# Altium footprint library Connector_PinHeader_1.00mm.PcbLib: 278 footprints (part 8 of 18)
Each footprint in its own frame and in the unit in brackets; x right, y up, seen from the top. Pads: shape width x height; smd on the part's side, far side on the other; paste and mask are expansions set on the pad; w line width, h text height; cw(c..) or ccw(c..) is an arc to the next point about the centre after c.
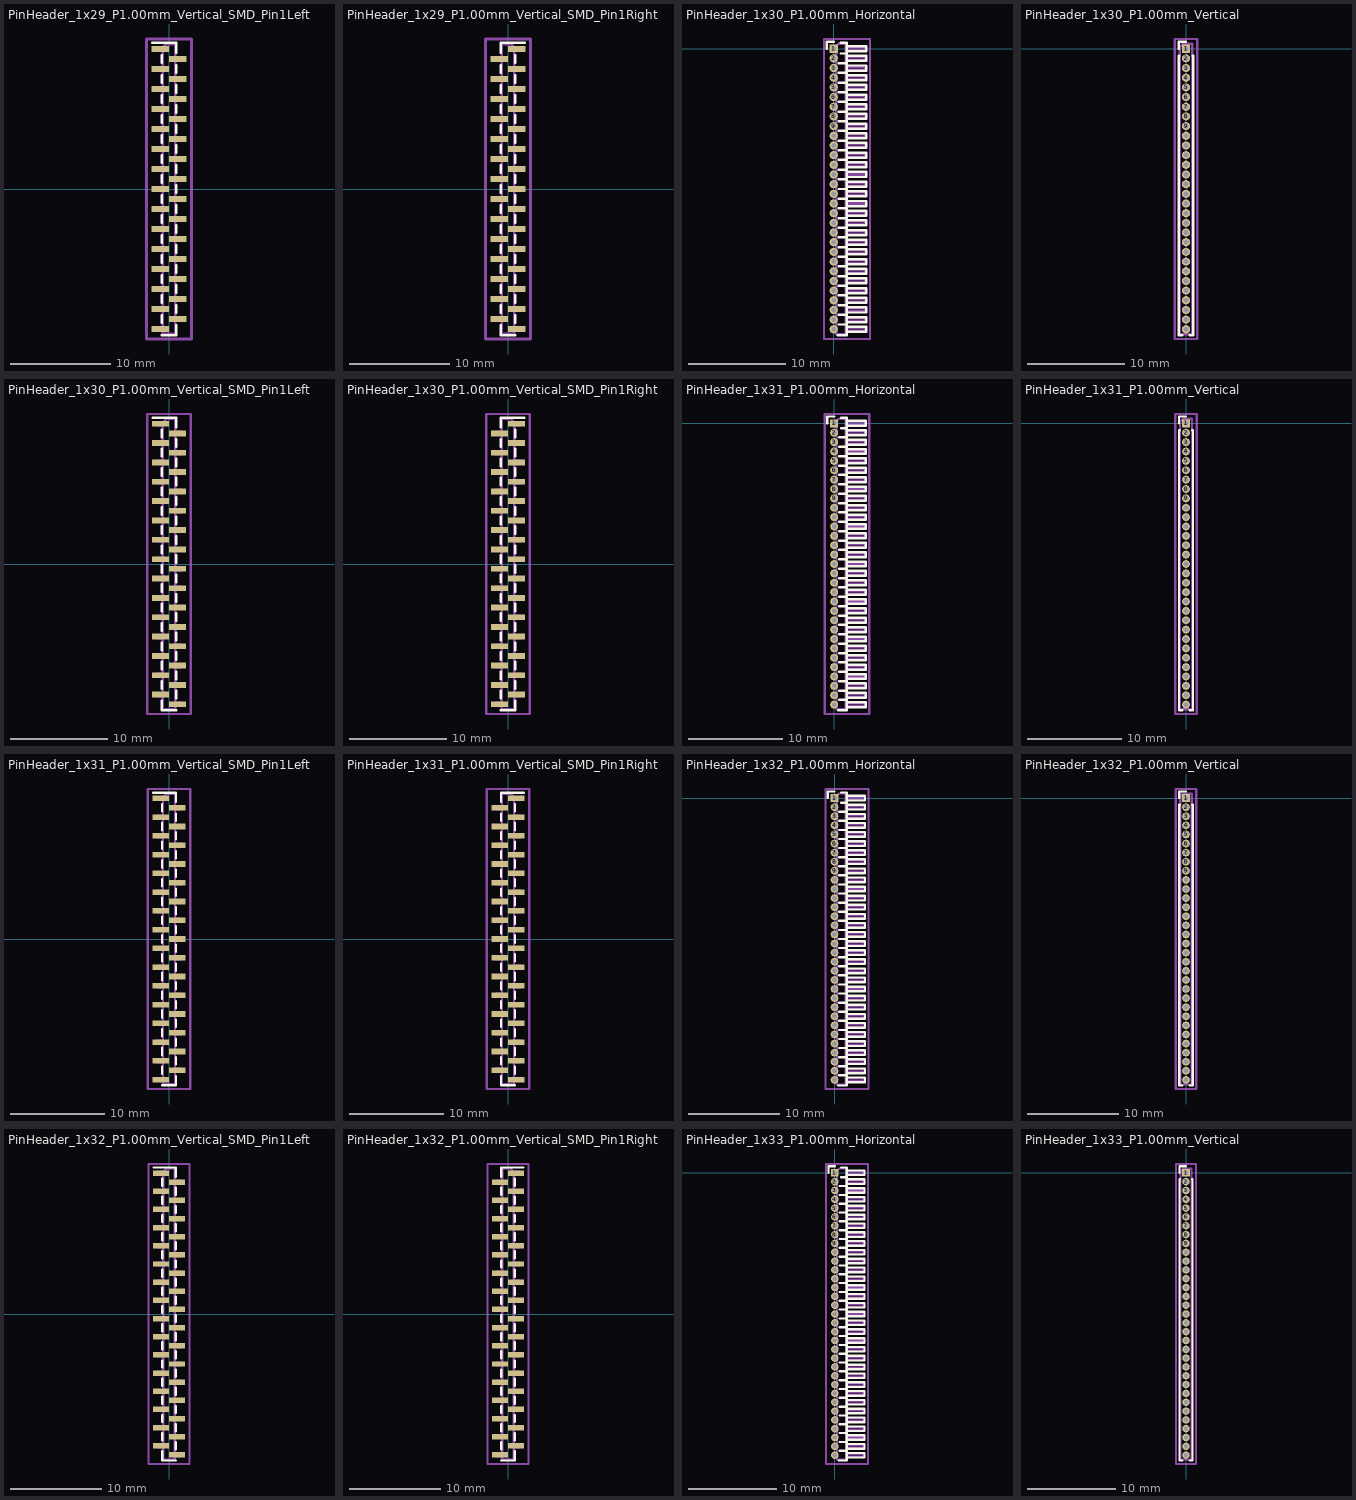
[diagram p7: the footprints below, top view; thin cyan lines are the x and y axes]

## PinHeader_1x29_P1.00mm_Vertical_SMD_Pin1Left [mm]
pads (29):
  rect 1.75x0.6 smd: 1(-0.875,14) 2(0.875,13) 3(-0.875,12) 4(0.875,11) 5(-0.875,10) 6(0.875,9) 7(-0.875,8) 8(0.875,7) 9(-0.875,6) 10(0.875,5) 11(-0.875,4) 12(0.875,3) 13(-0.875,2) 14(0.875,1) 15(-0.875,0) 16(0.875,-1) 17(-0.875,-2) 18(0.875,-3) 19(-0.875,-4) 20(0.875,-5) 21(-0.875,-6) 22(0.875,-7) 23(-0.875,-8) 24(0.875,-9) 25(-0.875,-10) 26(0.875,-11) 27(-0.875,-12) 28(0.875,-13) 29(-0.875,-14)
F.SilkS:
  lines w0.254: -1.69,14.61 -0.745,14.61 0.745,14.61 0.745,13.61 ; -0.745,-14.61 0.745,-14.61 0.745,-13.61 ; -0.745,-13.39 -0.745,-12.61 ; -0.745,-11.39 -0.745,-10.61 ; -0.745,-9.39 -0.745,-8.61 ; -0.745,-7.39 -0.745,-6.61 ; -0.745,-5.39 -0.745,-4.61 ; -0.745,-3.39 -0.745,-2.61 ; -0.745,-1.39 -0.745,-0.61 ; -0.745,0.61 -0.745,1.39 ; -0.745,2.61 -0.745,3.39 ; -0.745,4.61 -0.745,5.39 ; -0.745,6.61 -0.745,7.39 ; -0.745,8.61 -0.745,9.39 ; -0.745,10.61 -0.745,11.39 ; -0.745,12.61 -0.745,13.39 ; 0.745,-12.39 0.745,-11.61 ; 0.745,-10.39 0.745,-9.61 ; 0.745,-8.39 0.745,-7.61 ; 0.745,-6.39 0.745,-5.61 ; 0.745,-4.39 0.745,-3.61 ; 0.745,-2.39 0.745,-1.61 ; 0.745,-0.39 0.745,0.39 ; 0.745,1.61 0.745,2.39 ; 0.745,3.61 0.745,4.39 ; 0.745,5.61 0.745,6.39 ; 0.745,7.61 0.745,8.39 ; 0.745,9.61 0.745,10.39 ; 0.745,11.61 0.745,12.39
Top Assembly:
  lines w0.254: -0.635,-14.15 -1.25,-14.15 -1.25,-13.85 -0.635,-13.85 ; -0.635,-12.15 -1.25,-12.15 -1.25,-11.85 -0.635,-11.85 ; -0.635,-10.15 -1.25,-10.15 -1.25,-9.85 -0.635,-9.85 ; -0.635,-8.15 -1.25,-8.15 -1.25,-7.85 -0.635,-7.85 ; -0.635,-6.15 -1.25,-6.15 -1.25,-5.85 -0.635,-5.85 ; -0.635,-4.15 -1.25,-4.15 -1.25,-3.85 -0.635,-3.85 ; -0.635,-2.15 -1.25,-2.15 -1.25,-1.85 -0.635,-1.85 ; -0.635,-0.15 -1.25,-0.15 -1.25,0.15 -0.635,0.15 ; -0.635,1.85 -1.25,1.85 -1.25,2.15 -0.635,2.15 ; -0.635,3.85 -1.25,3.85 -1.25,4.15 -0.635,4.15 ; -0.635,5.85 -1.25,5.85 -1.25,6.15 -0.635,6.15 ; -0.635,7.85 -1.25,7.85 -1.25,8.15 -0.635,8.15 ; -0.635,9.85 -1.25,9.85 -1.25,10.15 -0.635,10.15 ; -0.635,11.85 -1.25,11.85 -1.25,12.15 -0.635,12.15 ; -0.635,13.85 -1.25,13.85 -1.25,14.15 -0.635,14.15 ; 0.635,-13.15 1.25,-13.15 1.25,-12.85 0.635,-12.85 ; 0.635,-11.15 1.25,-11.15 1.25,-10.85 0.635,-10.85 ; 0.635,-9.15 1.25,-9.15 1.25,-8.85 0.635,-8.85 ; 0.635,-7.15 1.25,-7.15 1.25,-6.85 0.635,-6.85 ; 0.635,-5.15 1.25,-5.15 1.25,-4.85 0.635,-4.85 ; 0.635,-3.15 1.25,-3.15 1.25,-2.85 0.635,-2.85 ; 0.635,-1.15 1.25,-1.15 1.25,-0.85 0.635,-0.85 ; 0.635,0.85 1.25,0.85 1.25,1.15 0.635,1.15 ; 0.635,2.85 1.25,2.85 1.25,3.15 0.635,3.15 ; 0.635,4.85 1.25,4.85 1.25,5.15 0.635,5.15 ; 0.635,6.85 1.25,6.85 1.25,7.15 0.635,7.15 ; 0.635,8.85 1.25,8.85 1.25,9.15 0.635,9.15 ; 0.635,10.85 1.25,10.85 1.25,11.15 0.635,11.15 ; 0.635,12.85 1.25,12.85 1.25,13.15 0.635,13.15 ; -0.635,14.15 -0.635,-14.5 0.635,-14.5 0.635,14.5 -0.285,14.5 -0.635,14.15
  text "'.Designator'" at 0.84,-4.047 h1
Top Courtyard:
  lines w0.254: -2.25,-15 2.25,-15 2.25,15 -2.25,15 -2.25,-15
Top Designator:
  text ".Designator" at -7.618,-0.508 h1.52

## PinHeader_1x29_P1.00mm_Vertical_SMD_Pin1Right [mm]
pads (29):
  rect 1.75x0.6 smd: 1(0.875,14) 2(-0.875,13) 3(0.875,12) 4(-0.875,11) 5(0.875,10) 6(-0.875,9) 7(0.875,8) 8(-0.875,7) 9(0.875,6) 10(-0.875,5) 11(0.875,4) 12(-0.875,3) 13(0.875,2) 14(-0.875,1) 15(0.875,0) 16(-0.875,-1) 17(0.875,-2) 18(-0.875,-3) 19(0.875,-4) 20(-0.875,-5) 21(0.875,-6) 22(-0.875,-7) 23(0.875,-8) 24(-0.875,-9) 25(0.875,-10) 26(-0.875,-11) 27(0.875,-12) 28(-0.875,-13) 29(0.875,-14)
F.SilkS:
  lines w0.254: -0.745,-13.61 -0.745,-14.61 0.745,-14.61 ; -0.745,-12.39 -0.745,-11.61 ; -0.745,-10.39 -0.745,-9.61 ; -0.745,-8.39 -0.745,-7.61 ; -0.745,-6.39 -0.745,-5.61 ; -0.745,-4.39 -0.745,-3.61 ; -0.745,-2.39 -0.745,-1.61 ; -0.745,-0.39 -0.745,0.39 ; -0.745,1.61 -0.745,2.39 ; -0.745,3.61 -0.745,4.39 ; -0.745,5.61 -0.745,6.39 ; -0.745,7.61 -0.745,8.39 ; -0.745,9.61 -0.745,10.39 ; -0.745,11.61 -0.745,12.39 ; -0.745,14.39 -0.745,13.61 -0.745,14.61 0.745,14.61 1.69,14.61 ; 0.745,-13.39 0.745,-12.61 ; 0.745,-11.39 0.745,-10.61 ; 0.745,-9.39 0.745,-8.61 ; 0.745,-7.39 0.745,-6.61 ; 0.745,-5.39 0.745,-4.61 ; 0.745,-3.39 0.745,-2.61 ; 0.745,-1.39 0.745,-0.61 ; 0.745,0.61 0.745,1.39 ; 0.745,2.61 0.745,3.39 ; 0.745,4.61 0.745,5.39 ; 0.745,6.61 0.745,7.39 ; 0.745,8.61 0.745,9.39 ; 0.745,10.61 0.745,11.39 ; 0.745,12.61 0.745,13.39
Top Assembly:
  lines w0.254: -0.635,-13.15 -1.25,-13.15 -1.25,-12.85 -0.635,-12.85 ; -0.635,-11.15 -1.25,-11.15 -1.25,-10.85 -0.635,-10.85 ; -0.635,-9.15 -1.25,-9.15 -1.25,-8.85 -0.635,-8.85 ; -0.635,-7.15 -1.25,-7.15 -1.25,-6.85 -0.635,-6.85 ; -0.635,-5.15 -1.25,-5.15 -1.25,-4.85 -0.635,-4.85 ; -0.635,-3.15 -1.25,-3.15 -1.25,-2.85 -0.635,-2.85 ; -0.635,-1.15 -1.25,-1.15 -1.25,-0.85 -0.635,-0.85 ; -0.635,0.85 -1.25,0.85 -1.25,1.15 -0.635,1.15 ; -0.635,2.85 -1.25,2.85 -1.25,3.15 -0.635,3.15 ; -0.635,4.85 -1.25,4.85 -1.25,5.15 -0.635,5.15 ; -0.635,6.85 -1.25,6.85 -1.25,7.15 -0.635,7.15 ; -0.635,8.85 -1.25,8.85 -1.25,9.15 -0.635,9.15 ; -0.635,10.85 -1.25,10.85 -1.25,11.15 -0.635,11.15 ; -0.635,12.85 -1.25,12.85 -1.25,13.15 -0.635,13.15 ; 0.635,-14.15 1.25,-14.15 1.25,-13.85 0.635,-13.85 ; 0.635,-12.15 1.25,-12.15 1.25,-11.85 0.635,-11.85 ; 0.635,-10.15 1.25,-10.15 1.25,-9.85 0.635,-9.85 ; 0.635,-8.15 1.25,-8.15 1.25,-7.85 0.635,-7.85 ; 0.635,-6.15 1.25,-6.15 1.25,-5.85 0.635,-5.85 ; 0.635,-4.15 1.25,-4.15 1.25,-3.85 0.635,-3.85 ; 0.635,-2.15 1.25,-2.15 1.25,-1.85 0.635,-1.85 ; 0.635,-0.15 1.25,-0.15 1.25,0.15 0.635,0.15 ; 0.635,1.85 1.25,1.85 1.25,2.15 0.635,2.15 ; 0.635,3.85 1.25,3.85 1.25,4.15 0.635,4.15 ; 0.635,5.85 1.25,5.85 1.25,6.15 0.635,6.15 ; 0.635,7.85 1.25,7.85 1.25,8.15 0.635,8.15 ; 0.635,9.85 1.25,9.85 1.25,10.15 0.635,10.15 ; 0.635,11.85 1.25,11.85 1.25,12.15 0.635,12.15 ; 0.635,13.85 1.25,13.85 1.25,14.15 0.635,14.15 ; 0.635,14.15 0.635,-14.5 -0.635,-14.5 -0.635,14.5 0.285,14.5 0.635,14.15
  text "'.Designator'" at 0.84,-4.047 h1
Top Courtyard:
  lines w0.254: -2.25,-15 2.25,-15 2.25,15 -2.25,15 -2.25,-15
Top Designator:
  text ".Designator" at -7.618,-0.508 h1.52

## PinHeader_1x30_P1.00mm_Horizontal [mm]
pads (30):
  rect 0.85x0.85 hole 0.5: 1(0,0)
  round 0.85 hole 0.5: 2(0,-1) 3(0,-2) 4(0,-3) 5(0,-4) 6(0,-5) 7(0,-6) 8(0,-7) 9(0,-8) 10(0,-9) 11(0,-10) 12(0,-11) 13(0,-12) 14(0,-13) 15(0,-14) 16(0,-15) 17(0,-16) 18(0,-17) 19(0,-18) 20(0,-19) 21(0,-20) 22(0,-21) 23(0,-22) 24(0,-23) 25(0,-24) 26(0,-25) 27(0,-26) 28(0,-27) 29(0,-28) 30(0,-29)
F.SilkS:
  lines w0.254: -0.735,0 -0.735,0.735 0,0.735 ; 0.41,-29.61 1.36,-29.61 1.36,0.61 0.735,0.61 ; 0.539,-28.5 1.36,-28.5 ; 0.539,-27.5 1.36,-27.5 ; 0.539,-26.5 1.36,-26.5 ; 0.539,-25.5 1.36,-25.5 ; 0.539,-24.5 1.36,-24.5 ; 0.539,-23.5 1.36,-23.5 ; 0.539,-22.5 1.36,-22.5 ; 0.539,-21.5 1.36,-21.5 ; 0.539,-20.5 1.36,-20.5 ; 0.539,-19.5 1.36,-19.5 ; 0.539,-18.5 1.36,-18.5 ; 0.539,-17.5 1.36,-17.5 ; 0.539,-16.5 1.36,-16.5 ; 0.539,-15.5 1.36,-15.5 ; 0.539,-14.5 1.36,-14.5 ; 0.539,-13.5 1.36,-13.5 ; 0.539,-12.5 1.36,-12.5 ; 0.539,-11.5 1.36,-11.5 ; 0.539,-10.5 1.36,-10.5 ; 0.539,-9.5 1.36,-9.5 ; 0.539,-8.5 1.36,-8.5 ; 0.539,-7.5 1.36,-7.5 ; 0.539,-6.5 1.36,-6.5 ; 0.539,-5.5 1.36,-5.5 ; 0.539,-4.5 1.36,-4.5 ; 0.539,-3.5 1.36,-3.5 ; 0.539,-2.5 1.36,-2.5 ; 0.539,-1.5 1.36,-1.5 ; 0.735,-0.5 1.36,-0.5 ; 1.36,-29.26 3.36,-29.26 3.36,-28.74 1.36,-28.74 ; 1.36,-28.26 3.36,-28.26 3.36,-27.74 1.36,-27.74 ; 1.36,-27.26 3.36,-27.26 3.36,-26.74 1.36,-26.74 ; 1.36,-26.26 3.36,-26.26 3.36,-25.74 1.36,-25.74 ; 1.36,-25.26 3.36,-25.26 3.36,-24.74 1.36,-24.74 ; 1.36,-24.26 3.36,-24.26 3.36,-23.74 1.36,-23.74 ; 1.36,-23.26 3.36,-23.26 3.36,-22.74 1.36,-22.74 ; 1.36,-22.26 3.36,-22.26 3.36,-21.74 1.36,-21.74 ; 1.36,-21.26 3.36,-21.26 3.36,-20.74 1.36,-20.74 ; 1.36,-20.26 3.36,-20.26 3.36,-19.74 1.36,-19.74 ; 1.36,-19.26 3.36,-19.26 3.36,-18.74 1.36,-18.74 ; 1.36,-18.26 3.36,-18.26 3.36,-17.74 1.36,-17.74 ; 1.36,-17.26 3.36,-17.26 3.36,-16.74 1.36,-16.74 ; 1.36,-16.26 3.36,-16.26 3.36,-15.74 1.36,-15.74 ; 1.36,-15.26 3.36,-15.26 3.36,-14.74 1.36,-14.74 ; 1.36,-14.26 3.36,-14.26 3.36,-13.74 1.36,-13.74 ; 1.36,-13.26 3.36,-13.26 3.36,-12.74 1.36,-12.74 ; 1.36,-12.26 3.36,-12.26 3.36,-11.74 1.36,-11.74 ; 1.36,-11.26 3.36,-11.26 3.36,-10.74 1.36,-10.74 ; 1.36,-10.26 3.36,-10.26 3.36,-9.74 1.36,-9.74 ; 1.36,-9.26 3.36,-9.26 3.36,-8.74 1.36,-8.74 ; 1.36,-8.26 3.36,-8.26 3.36,-7.74 1.36,-7.74 ; 1.36,-7.26 3.36,-7.26 3.36,-6.74 1.36,-6.74 ; 1.36,-6.26 3.36,-6.26 3.36,-5.74 1.36,-5.74 ; 1.36,-5.26 3.36,-5.26 3.36,-4.74 1.36,-4.74 ; 1.36,-4.26 3.36,-4.26 3.36,-3.74 1.36,-3.74 ; 1.36,-3.26 3.36,-3.26 3.36,-2.74 1.36,-2.74 ; 1.36,-2.26 3.36,-2.26 3.36,-1.74 1.36,-1.74 ; 1.36,-1.26 3.36,-1.26 3.36,-0.74 1.36,-0.74 ; 1.36,-0.26 3.36,-0.26 3.36,0.26 1.36,0.26 1.36,-0.26
Top Assembly:
  drawing of 185 lines, arcs and shapes, not listed
  text "'.Designator'" at 1.254,-16.928 h0.6
Top Courtyard:
  lines w0.254: -1,-30 3.75,-30 3.75,1 -1,1 -1,-30
Top Designator:
  text ".Designator" at -6.243,-15.008 h1.52

## PinHeader_1x30_P1.00mm_Vertical [mm]
pads (30):
  rect 0.85x0.85 hole 0.5: 1(0,0)
  round 0.85 hole 0.5: 2(0,-1) 3(0,-2) 4(0,-3) 5(0,-4) 6(0,-5) 7(0,-6) 8(0,-7) 9(0,-8) 10(0,-9) 11(0,-10) 12(0,-11) 13(0,-12) 14(0,-13) 15(0,-14) 16(0,-15) 17(0,-16) 18(0,-17) 19(0,-18) 20(0,-19) 21(0,-20) 22(0,-21) 23(0,-22) 24(0,-23) 25(0,-24) 26(0,-25) 27(0,-26) 28(0,-27) 29(0,-28) 30(0,-29)
F.SilkS:
  lines w0.254: -0.745,0 -0.745,0.735 0,0.735 ; -0.686,-0.735 -0.745,-0.735 -0.745,-29.61 -0.41,-29.61 ; 0.41,-29.61 0.745,-29.61 0.745,-0.735 0.686,-0.735
Top Assembly:
  lines w0.254: -0.635,-29.5 0.635,-29.5 0.635,0.5 -0.318,0.5 -0.635,0.182 -0.635,-29.5
  text "'.Designator'" at 0.639,-17.576 h0.76
Top Courtyard:
  lines w0.254: -1.14,-30 1.14,-30 1.14,1 -1.14,1 -1.14,-30
Top Designator:
  text ".Designator" at -7.618,-15.008 h1.52

## PinHeader_1x30_P1.00mm_Vertical_SMD_Pin1Left [mm]
pads (30):
  rect 1.75x0.6 smd: 1(-0.875,14.5) 2(0.875,13.5) 3(-0.875,12.5) 4(0.875,11.5) 5(-0.875,10.5) 6(0.875,9.5) 7(-0.875,8.5) 8(0.875,7.5) 9(-0.875,6.5) 10(0.875,5.5) 11(-0.875,4.5) 12(0.875,3.5) 13(-0.875,2.5) 14(0.875,1.5) 15(-0.875,0.5) 16(0.875,-0.5) 17(-0.875,-1.5) 18(0.875,-2.5) 19(-0.875,-3.5) 20(0.875,-4.5) 21(-0.875,-5.5) 22(0.875,-6.5) 23(-0.875,-7.5) 24(0.875,-8.5) 25(-0.875,-9.5) 26(0.875,-10.5) 27(-0.875,-11.5) 28(0.875,-12.5) 29(-0.875,-13.5) 30(0.875,-14.5)
F.SilkS:
  lines w0.254: -1.69,15.11 -0.745,15.11 0.745,15.11 0.745,14.11 ; -0.745,-14.11 -0.745,-15.11 0.745,-15.11 ; -0.745,-12.89 -0.745,-12.11 ; -0.745,-10.89 -0.745,-10.11 ; -0.745,-8.89 -0.745,-8.11 ; -0.745,-6.89 -0.745,-6.11 ; -0.745,-4.89 -0.745,-4.11 ; -0.745,-2.89 -0.745,-2.11 ; -0.745,-0.89 -0.745,-0.11 ; -0.745,1.11 -0.745,1.89 ; -0.745,3.11 -0.745,3.89 ; -0.745,5.11 -0.745,5.89 ; -0.745,7.11 -0.745,7.89 ; -0.745,9.11 -0.745,9.89 ; -0.745,11.11 -0.745,11.89 ; -0.745,13.11 -0.745,13.89 ; 0.745,-13.89 0.745,-13.11 ; 0.745,-11.89 0.745,-11.11 ; 0.745,-9.89 0.745,-9.11 ; 0.745,-7.89 0.745,-7.11 ; 0.745,-5.89 0.745,-5.11 ; 0.745,-3.89 0.745,-3.11 ; 0.745,-1.89 0.745,-1.11 ; 0.745,0.11 0.745,0.89 ; 0.745,2.11 0.745,2.89 ; 0.745,4.11 0.745,4.89 ; 0.745,6.11 0.745,6.89 ; 0.745,8.11 0.745,8.89 ; 0.745,10.11 0.745,10.89 ; 0.745,12.11 0.745,12.89
Top Assembly:
  lines w0.254: -0.635,-13.65 -1.25,-13.65 -1.25,-13.35 -0.635,-13.35 ; -0.635,-11.65 -1.25,-11.65 -1.25,-11.35 -0.635,-11.35 ; -0.635,-9.65 -1.25,-9.65 -1.25,-9.35 -0.635,-9.35 ; -0.635,-7.65 -1.25,-7.65 -1.25,-7.35 -0.635,-7.35 ; -0.635,-5.65 -1.25,-5.65 -1.25,-5.35 -0.635,-5.35 ; -0.635,-3.65 -1.25,-3.65 -1.25,-3.35 -0.635,-3.35 ; -0.635,-1.65 -1.25,-1.65 -1.25,-1.35 -0.635,-1.35 ; -0.635,0.35 -1.25,0.35 -1.25,0.65 -0.635,0.65 ; -0.635,2.35 -1.25,2.35 -1.25,2.65 -0.635,2.65 ; -0.635,4.35 -1.25,4.35 -1.25,4.65 -0.635,4.65 ; -0.635,6.35 -1.25,6.35 -1.25,6.65 -0.635,6.65 ; -0.635,8.35 -1.25,8.35 -1.25,8.65 -0.635,8.65 ; -0.635,10.35 -1.25,10.35 -1.25,10.65 -0.635,10.65 ; -0.635,12.35 -1.25,12.35 -1.25,12.65 -0.635,12.65 ; -0.635,14.35 -1.25,14.35 -1.25,14.65 -0.635,14.65 ; 0.635,-14.65 1.25,-14.65 1.25,-14.35 0.635,-14.35 ; 0.635,-12.65 1.25,-12.65 1.25,-12.35 0.635,-12.35 ; 0.635,-10.65 1.25,-10.65 1.25,-10.35 0.635,-10.35 ; 0.635,-8.65 1.25,-8.65 1.25,-8.35 0.635,-8.35 ; 0.635,-6.65 1.25,-6.65 1.25,-6.35 0.635,-6.35 ; 0.635,-4.65 1.25,-4.65 1.25,-4.35 0.635,-4.35 ; 0.635,-2.65 1.25,-2.65 1.25,-2.35 0.635,-2.35 ; 0.635,-0.65 1.25,-0.65 1.25,-0.35 0.635,-0.35 ; 0.635,1.35 1.25,1.35 1.25,1.65 0.635,1.65 ; 0.635,3.35 1.25,3.35 1.25,3.65 0.635,3.65 ; 0.635,5.35 1.25,5.35 1.25,5.65 0.635,5.65 ; 0.635,7.35 1.25,7.35 1.25,7.65 0.635,7.65 ; 0.635,9.35 1.25,9.35 1.25,9.65 0.635,9.65 ; 0.635,11.35 1.25,11.35 1.25,11.65 0.635,11.65 ; 0.635,13.35 1.25,13.35 1.25,13.65 0.635,13.65 ; -0.635,14.65 -0.635,-15 0.635,-15 0.635,15 -0.285,15 -0.635,14.65
  text "'.Designator'" at 0.84,-4.047 h1
Top Courtyard:
  lines w0.254: -2.25,-15.5 2.25,-15.5 2.25,15.5 -2.25,15.5 -2.25,-15.5
Top Designator:
  text ".Designator" at -7.618,-0.508 h1.52

## PinHeader_1x30_P1.00mm_Vertical_SMD_Pin1Right [mm]
pads (30):
  rect 1.75x0.6 smd: 1(0.875,14.5) 2(-0.875,13.5) 3(0.875,12.5) 4(-0.875,11.5) 5(0.875,10.5) 6(-0.875,9.5) 7(0.875,8.5) 8(-0.875,7.5) 9(0.875,6.5) 10(-0.875,5.5) 11(0.875,4.5) 12(-0.875,3.5) 13(0.875,2.5) 14(-0.875,1.5) 15(0.875,0.5) 16(-0.875,-0.5) 17(0.875,-1.5) 18(-0.875,-2.5) 19(0.875,-3.5) 20(-0.875,-4.5) 21(0.875,-5.5) 22(-0.875,-6.5) 23(0.875,-7.5) 24(-0.875,-8.5) 25(0.875,-9.5) 26(-0.875,-10.5) 27(0.875,-11.5) 28(-0.875,-12.5) 29(0.875,-13.5) 30(-0.875,-14.5)
F.SilkS:
  lines w0.254: -0.745,-15.11 0.745,-15.11 0.745,-14.11 ; -0.745,-13.89 -0.745,-13.11 ; -0.745,-11.89 -0.745,-11.11 ; -0.745,-9.89 -0.745,-9.11 ; -0.745,-7.89 -0.745,-7.11 ; -0.745,-5.89 -0.745,-5.11 ; -0.745,-3.89 -0.745,-3.11 ; -0.745,-1.89 -0.745,-1.11 ; -0.745,0.11 -0.745,0.89 ; -0.745,2.11 -0.745,2.89 ; -0.745,4.11 -0.745,4.89 ; -0.745,6.11 -0.745,6.89 ; -0.745,8.11 -0.745,8.89 ; -0.745,10.11 -0.745,10.89 ; -0.745,12.11 -0.745,12.89 ; -0.745,14.89 -0.745,14.11 -0.745,15.11 0.745,15.11 1.69,15.11 ; 0.745,-12.89 0.745,-12.11 ; 0.745,-10.89 0.745,-10.11 ; 0.745,-8.89 0.745,-8.11 ; 0.745,-6.89 0.745,-6.11 ; 0.745,-4.89 0.745,-4.11 ; 0.745,-2.89 0.745,-2.11 ; 0.745,-0.89 0.745,-0.11 ; 0.745,1.11 0.745,1.89 ; 0.745,3.11 0.745,3.89 ; 0.745,5.11 0.745,5.89 ; 0.745,7.11 0.745,7.89 ; 0.745,9.11 0.745,9.89 ; 0.745,11.11 0.745,11.89 ; 0.745,13.11 0.745,13.89
Top Assembly:
  lines w0.254: -0.635,-14.65 -1.25,-14.65 -1.25,-14.35 -0.635,-14.35 ; -0.635,-12.65 -1.25,-12.65 -1.25,-12.35 -0.635,-12.35 ; -0.635,-10.65 -1.25,-10.65 -1.25,-10.35 -0.635,-10.35 ; -0.635,-8.65 -1.25,-8.65 -1.25,-8.35 -0.635,-8.35 ; -0.635,-6.65 -1.25,-6.65 -1.25,-6.35 -0.635,-6.35 ; -0.635,-4.65 -1.25,-4.65 -1.25,-4.35 -0.635,-4.35 ; -0.635,-2.65 -1.25,-2.65 -1.25,-2.35 -0.635,-2.35 ; -0.635,-0.65 -1.25,-0.65 -1.25,-0.35 -0.635,-0.35 ; -0.635,1.35 -1.25,1.35 -1.25,1.65 -0.635,1.65 ; -0.635,3.35 -1.25,3.35 -1.25,3.65 -0.635,3.65 ; -0.635,5.35 -1.25,5.35 -1.25,5.65 -0.635,5.65 ; -0.635,7.35 -1.25,7.35 -1.25,7.65 -0.635,7.65 ; -0.635,9.35 -1.25,9.35 -1.25,9.65 -0.635,9.65 ; -0.635,11.35 -1.25,11.35 -1.25,11.65 -0.635,11.65 ; -0.635,13.35 -1.25,13.35 -1.25,13.65 -0.635,13.65 ; 0.635,-13.65 1.25,-13.65 1.25,-13.35 0.635,-13.35 ; 0.635,-11.65 1.25,-11.65 1.25,-11.35 0.635,-11.35 ; 0.635,-9.65 1.25,-9.65 1.25,-9.35 0.635,-9.35 ; 0.635,-7.65 1.25,-7.65 1.25,-7.35 0.635,-7.35 ; 0.635,-5.65 1.25,-5.65 1.25,-5.35 0.635,-5.35 ; 0.635,-3.65 1.25,-3.65 1.25,-3.35 0.635,-3.35 ; 0.635,-1.65 1.25,-1.65 1.25,-1.35 0.635,-1.35 ; 0.635,0.35 1.25,0.35 1.25,0.65 0.635,0.65 ; 0.635,2.35 1.25,2.35 1.25,2.65 0.635,2.65 ; 0.635,4.35 1.25,4.35 1.25,4.65 0.635,4.65 ; 0.635,6.35 1.25,6.35 1.25,6.65 0.635,6.65 ; 0.635,8.35 1.25,8.35 1.25,8.65 0.635,8.65 ; 0.635,10.35 1.25,10.35 1.25,10.65 0.635,10.65 ; 0.635,12.35 1.25,12.35 1.25,12.65 0.635,12.65 ; 0.635,14.35 1.25,14.35 1.25,14.65 0.635,14.65 ; 0.635,14.65 0.635,-15 -0.635,-15 -0.635,15 0.285,15 0.635,14.65
  text "'.Designator'" at 0.84,-4.047 h1
Top Courtyard:
  lines w0.254: -2.25,-15.5 2.25,-15.5 2.25,15.5 -2.25,15.5 -2.25,-15.5
Top Designator:
  text ".Designator" at -7.618,-0.508 h1.52

## PinHeader_1x31_P1.00mm_Horizontal [mm]
pads (31):
  rect 0.85x0.85 hole 0.5: 1(0,0)
  round 0.85 hole 0.5: 2(0,-1) 3(0,-2) 4(0,-3) 5(0,-4) 6(0,-5) 7(0,-6) 8(0,-7) 9(0,-8) 10(0,-9) 11(0,-10) 12(0,-11) 13(0,-12) 14(0,-13) 15(0,-14) 16(0,-15) 17(0,-16) 18(0,-17) 19(0,-18) 20(0,-19) 21(0,-20) 22(0,-21) 23(0,-22) 24(0,-23) 25(0,-24) 26(0,-25) 27(0,-26) 28(0,-27) 29(0,-28) 30(0,-29) 31(0,-30)
F.SilkS:
  lines w0.254: -0.735,0 -0.735,0.735 0,0.735 ; 0.41,-30.61 1.36,-30.61 1.36,0.61 0.735,0.61 ; 0.539,-29.5 1.36,-29.5 ; 0.539,-28.5 1.36,-28.5 ; 0.539,-27.5 1.36,-27.5 ; 0.539,-26.5 1.36,-26.5 ; 0.539,-25.5 1.36,-25.5 ; 0.539,-24.5 1.36,-24.5 ; 0.539,-23.5 1.36,-23.5 ; 0.539,-22.5 1.36,-22.5 ; 0.539,-21.5 1.36,-21.5 ; 0.539,-20.5 1.36,-20.5 ; 0.539,-19.5 1.36,-19.5 ; 0.539,-18.5 1.36,-18.5 ; 0.539,-17.5 1.36,-17.5 ; 0.539,-16.5 1.36,-16.5 ; 0.539,-15.5 1.36,-15.5 ; 0.539,-14.5 1.36,-14.5 ; 0.539,-13.5 1.36,-13.5 ; 0.539,-12.5 1.36,-12.5 ; 0.539,-11.5 1.36,-11.5 ; 0.539,-10.5 1.36,-10.5 ; 0.539,-9.5 1.36,-9.5 ; 0.539,-8.5 1.36,-8.5 ; 0.539,-7.5 1.36,-7.5 ; 0.539,-6.5 1.36,-6.5 ; 0.539,-5.5 1.36,-5.5 ; 0.539,-4.5 1.36,-4.5 ; 0.539,-3.5 1.36,-3.5 ; 0.539,-2.5 1.36,-2.5 ; 0.539,-1.5 1.36,-1.5 ; 0.735,-0.5 1.36,-0.5 ; 1.36,-30.26 3.36,-30.26 3.36,-29.74 1.36,-29.74 ; 1.36,-29.26 3.36,-29.26 3.36,-28.74 1.36,-28.74 ; 1.36,-28.26 3.36,-28.26 3.36,-27.74 1.36,-27.74 ; 1.36,-27.26 3.36,-27.26 3.36,-26.74 1.36,-26.74 ; 1.36,-26.26 3.36,-26.26 3.36,-25.74 1.36,-25.74 ; 1.36,-25.26 3.36,-25.26 3.36,-24.74 1.36,-24.74 ; 1.36,-24.26 3.36,-24.26 3.36,-23.74 1.36,-23.74 ; 1.36,-23.26 3.36,-23.26 3.36,-22.74 1.36,-22.74 ; 1.36,-22.26 3.36,-22.26 3.36,-21.74 1.36,-21.74 ; 1.36,-21.26 3.36,-21.26 3.36,-20.74 1.36,-20.74 ; 1.36,-20.26 3.36,-20.26 3.36,-19.74 1.36,-19.74 ; 1.36,-19.26 3.36,-19.26 3.36,-18.74 1.36,-18.74 ; 1.36,-18.26 3.36,-18.26 3.36,-17.74 1.36,-17.74 ; 1.36,-17.26 3.36,-17.26 3.36,-16.74 1.36,-16.74 ; 1.36,-16.26 3.36,-16.26 3.36,-15.74 1.36,-15.74 ; 1.36,-15.26 3.36,-15.26 3.36,-14.74 1.36,-14.74 ; 1.36,-14.26 3.36,-14.26 3.36,-13.74 1.36,-13.74 ; 1.36,-13.26 3.36,-13.26 3.36,-12.74 1.36,-12.74 ; 1.36,-12.26 3.36,-12.26 3.36,-11.74 1.36,-11.74 ; 1.36,-11.26 3.36,-11.26 3.36,-10.74 1.36,-10.74 ; 1.36,-10.26 3.36,-10.26 3.36,-9.74 1.36,-9.74 ; 1.36,-9.26 3.36,-9.26 3.36,-8.74 1.36,-8.74 ; 1.36,-8.26 3.36,-8.26 3.36,-7.74 1.36,-7.74 ; 1.36,-7.26 3.36,-7.26 3.36,-6.74 1.36,-6.74 ; 1.36,-6.26 3.36,-6.26 3.36,-5.74 1.36,-5.74 ; 1.36,-5.26 3.36,-5.26 3.36,-4.74 1.36,-4.74 ; 1.36,-4.26 3.36,-4.26 3.36,-3.74 1.36,-3.74 ; 1.36,-3.26 3.36,-3.26 3.36,-2.74 1.36,-2.74 ; 1.36,-2.26 3.36,-2.26 3.36,-1.74 1.36,-1.74 ; 1.36,-1.26 3.36,-1.26 3.36,-0.74 1.36,-0.74 ; 1.36,-0.26 3.36,-0.26 3.36,0.26 1.36,0.26 1.36,-0.26
Top Assembly:
  drawing of 191 lines, arcs and shapes, not listed
  text "'.Designator'" at 1.254,-17.428 h0.6
Top Courtyard:
  lines w0.254: -1,-31 3.75,-31 3.75,1 -1,1 -1,-31
Top Designator:
  text ".Designator" at -6.243,-15.508 h1.52

## PinHeader_1x31_P1.00mm_Vertical [mm]
pads (31):
  rect 0.85x0.85 hole 0.5: 1(0,0)
  round 0.85 hole 0.5: 2(0,-1) 3(0,-2) 4(0,-3) 5(0,-4) 6(0,-5) 7(0,-6) 8(0,-7) 9(0,-8) 10(0,-9) 11(0,-10) 12(0,-11) 13(0,-12) 14(0,-13) 15(0,-14) 16(0,-15) 17(0,-16) 18(0,-17) 19(0,-18) 20(0,-19) 21(0,-20) 22(0,-21) 23(0,-22) 24(0,-23) 25(0,-24) 26(0,-25) 27(0,-26) 28(0,-27) 29(0,-28) 30(0,-29) 31(0,-30)
F.SilkS:
  lines w0.254: -0.745,0 -0.745,0.735 0,0.735 ; -0.686,-0.735 -0.745,-0.735 -0.745,-30.61 -0.41,-30.61 ; 0.41,-30.61 0.745,-30.61 0.745,-0.735 0.686,-0.735
Top Assembly:
  lines w0.254: -0.635,-30.5 0.635,-30.5 0.635,0.5 -0.318,0.5 -0.635,0.182 -0.635,-30.5
  text "'.Designator'" at 0.639,-18.076 h0.76
Top Courtyard:
  lines w0.254: -1.14,-31 1.14,-31 1.14,1 -1.14,1 -1.14,-31
Top Designator:
  text ".Designator" at -7.618,-15.508 h1.52

## PinHeader_1x31_P1.00mm_Vertical_SMD_Pin1Left [mm]
pads (31):
  rect 1.75x0.6 smd: 1(-0.875,15) 2(0.875,14) 3(-0.875,13) 4(0.875,12) 5(-0.875,11) 6(0.875,10) 7(-0.875,9) 8(0.875,8) 9(-0.875,7) 10(0.875,6) 11(-0.875,5) 12(0.875,4) 13(-0.875,3) 14(0.875,2) 15(-0.875,1) 16(0.875,0) 17(-0.875,-1) 18(0.875,-2) 19(-0.875,-3) 20(0.875,-4) 21(-0.875,-5) 22(0.875,-6) 23(-0.875,-7) 24(0.875,-8) 25(-0.875,-9) 26(0.875,-10) 27(-0.875,-11) 28(0.875,-12) 29(-0.875,-13) 30(0.875,-14) 31(-0.875,-15)
F.SilkS:
  lines w0.254: -1.69,15.61 -0.745,15.61 0.745,15.61 0.745,14.61 ; -0.745,-15.61 0.745,-15.61 0.745,-14.61 ; -0.745,-14.39 -0.745,-13.61 ; -0.745,-12.39 -0.745,-11.61 ; -0.745,-10.39 -0.745,-9.61 ; -0.745,-8.39 -0.745,-7.61 ; -0.745,-6.39 -0.745,-5.61 ; -0.745,-4.39 -0.745,-3.61 ; -0.745,-2.39 -0.745,-1.61 ; -0.745,-0.39 -0.745,0.39 ; -0.745,1.61 -0.745,2.39 ; -0.745,3.61 -0.745,4.39 ; -0.745,5.61 -0.745,6.39 ; -0.745,7.61 -0.745,8.39 ; -0.745,9.61 -0.745,10.39 ; -0.745,11.61 -0.745,12.39 ; -0.745,13.61 -0.745,14.39 ; 0.745,-13.39 0.745,-12.61 ; 0.745,-11.39 0.745,-10.61 ; 0.745,-9.39 0.745,-8.61 ; 0.745,-7.39 0.745,-6.61 ; 0.745,-5.39 0.745,-4.61 ; 0.745,-3.39 0.745,-2.61 ; 0.745,-1.39 0.745,-0.61 ; 0.745,0.61 0.745,1.39 ; 0.745,2.61 0.745,3.39 ; 0.745,4.61 0.745,5.39 ; 0.745,6.61 0.745,7.39 ; 0.745,8.61 0.745,9.39 ; 0.745,10.61 0.745,11.39 ; 0.745,12.61 0.745,13.39
Top Assembly:
  lines w0.254: -0.635,-15.15 -1.25,-15.15 -1.25,-14.85 -0.635,-14.85 ; -0.635,-13.15 -1.25,-13.15 -1.25,-12.85 -0.635,-12.85 ; -0.635,-11.15 -1.25,-11.15 -1.25,-10.85 -0.635,-10.85 ; -0.635,-9.15 -1.25,-9.15 -1.25,-8.85 -0.635,-8.85 ; -0.635,-7.15 -1.25,-7.15 -1.25,-6.85 -0.635,-6.85 ; -0.635,-5.15 -1.25,-5.15 -1.25,-4.85 -0.635,-4.85 ; -0.635,-3.15 -1.25,-3.15 -1.25,-2.85 -0.635,-2.85 ; -0.635,-1.15 -1.25,-1.15 -1.25,-0.85 -0.635,-0.85 ; -0.635,0.85 -1.25,0.85 -1.25,1.15 -0.635,1.15 ; -0.635,2.85 -1.25,2.85 -1.25,3.15 -0.635,3.15 ; -0.635,4.85 -1.25,4.85 -1.25,5.15 -0.635,5.15 ; -0.635,6.85 -1.25,6.85 -1.25,7.15 -0.635,7.15 ; -0.635,8.85 -1.25,8.85 -1.25,9.15 -0.635,9.15 ; -0.635,10.85 -1.25,10.85 -1.25,11.15 -0.635,11.15 ; -0.635,12.85 -1.25,12.85 -1.25,13.15 -0.635,13.15 ; -0.635,14.85 -1.25,14.85 -1.25,15.15 -0.635,15.15 ; 0.635,-14.15 1.25,-14.15 1.25,-13.85 0.635,-13.85 ; 0.635,-12.15 1.25,-12.15 1.25,-11.85 0.635,-11.85 ; 0.635,-10.15 1.25,-10.15 1.25,-9.85 0.635,-9.85 ; 0.635,-8.15 1.25,-8.15 1.25,-7.85 0.635,-7.85 ; 0.635,-6.15 1.25,-6.15 1.25,-5.85 0.635,-5.85 ; 0.635,-4.15 1.25,-4.15 1.25,-3.85 0.635,-3.85 ; 0.635,-2.15 1.25,-2.15 1.25,-1.85 0.635,-1.85 ; 0.635,-0.15 1.25,-0.15 1.25,0.15 0.635,0.15 ; 0.635,1.85 1.25,1.85 1.25,2.15 0.635,2.15 ; 0.635,3.85 1.25,3.85 1.25,4.15 0.635,4.15 ; 0.635,5.85 1.25,5.85 1.25,6.15 0.635,6.15 ; 0.635,7.85 1.25,7.85 1.25,8.15 0.635,8.15 ; 0.635,9.85 1.25,9.85 1.25,10.15 0.635,10.15 ; 0.635,11.85 1.25,11.85 1.25,12.15 0.635,12.15 ; 0.635,13.85 1.25,13.85 1.25,14.15 0.635,14.15 ; -0.635,15.15 -0.635,-15.5 0.635,-15.5 0.635,15.5 -0.285,15.5 -0.635,15.15
  text "'.Designator'" at 0.84,-4.047 h1
Top Courtyard:
  lines w0.254: -2.25,-16 2.25,-16 2.25,16 -2.25,16 -2.25,-16
Top Designator:
  text ".Designator" at -7.618,-0.508 h1.52

## PinHeader_1x31_P1.00mm_Vertical_SMD_Pin1Right [mm]
pads (31):
  rect 1.75x0.6 smd: 1(0.875,15) 2(-0.875,14) 3(0.875,13) 4(-0.875,12) 5(0.875,11) 6(-0.875,10) 7(0.875,9) 8(-0.875,8) 9(0.875,7) 10(-0.875,6) 11(0.875,5) 12(-0.875,4) 13(0.875,3) 14(-0.875,2) 15(0.875,1) 16(-0.875,0) 17(0.875,-1) 18(-0.875,-2) 19(0.875,-3) 20(-0.875,-4) 21(0.875,-5) 22(-0.875,-6) 23(0.875,-7) 24(-0.875,-8) 25(0.875,-9) 26(-0.875,-10) 27(0.875,-11) 28(-0.875,-12) 29(0.875,-13) 30(-0.875,-14) 31(0.875,-15)
F.SilkS:
  lines w0.254: -0.745,-14.61 -0.745,-15.61 0.745,-15.61 ; -0.745,-13.39 -0.745,-12.61 ; -0.745,-11.39 -0.745,-10.61 ; -0.745,-9.39 -0.745,-8.61 ; -0.745,-7.39 -0.745,-6.61 ; -0.745,-5.39 -0.745,-4.61 ; -0.745,-3.39 -0.745,-2.61 ; -0.745,-1.39 -0.745,-0.61 ; -0.745,0.61 -0.745,1.39 ; -0.745,2.61 -0.745,3.39 ; -0.745,4.61 -0.745,5.39 ; -0.745,6.61 -0.745,7.39 ; -0.745,8.61 -0.745,9.39 ; -0.745,10.61 -0.745,11.39 ; -0.745,12.61 -0.745,13.39 ; -0.745,15.39 -0.745,14.61 -0.745,15.61 0.745,15.61 1.69,15.61 ; 0.745,-14.39 0.745,-13.61 ; 0.745,-12.39 0.745,-11.61 ; 0.745,-10.39 0.745,-9.61 ; 0.745,-8.39 0.745,-7.61 ; 0.745,-6.39 0.745,-5.61 ; 0.745,-4.39 0.745,-3.61 ; 0.745,-2.39 0.745,-1.61 ; 0.745,-0.39 0.745,0.39 ; 0.745,1.61 0.745,2.39 ; 0.745,3.61 0.745,4.39 ; 0.745,5.61 0.745,6.39 ; 0.745,7.61 0.745,8.39 ; 0.745,9.61 0.745,10.39 ; 0.745,11.61 0.745,12.39 ; 0.745,13.61 0.745,14.39
Top Assembly:
  lines w0.254: -0.635,-14.15 -1.25,-14.15 -1.25,-13.85 -0.635,-13.85 ; -0.635,-12.15 -1.25,-12.15 -1.25,-11.85 -0.635,-11.85 ; -0.635,-10.15 -1.25,-10.15 -1.25,-9.85 -0.635,-9.85 ; -0.635,-8.15 -1.25,-8.15 -1.25,-7.85 -0.635,-7.85 ; -0.635,-6.15 -1.25,-6.15 -1.25,-5.85 -0.635,-5.85 ; -0.635,-4.15 -1.25,-4.15 -1.25,-3.85 -0.635,-3.85 ; -0.635,-2.15 -1.25,-2.15 -1.25,-1.85 -0.635,-1.85 ; -0.635,-0.15 -1.25,-0.15 -1.25,0.15 -0.635,0.15 ; -0.635,1.85 -1.25,1.85 -1.25,2.15 -0.635,2.15 ; -0.635,3.85 -1.25,3.85 -1.25,4.15 -0.635,4.15 ; -0.635,5.85 -1.25,5.85 -1.25,6.15 -0.635,6.15 ; -0.635,7.85 -1.25,7.85 -1.25,8.15 -0.635,8.15 ; -0.635,9.85 -1.25,9.85 -1.25,10.15 -0.635,10.15 ; -0.635,11.85 -1.25,11.85 -1.25,12.15 -0.635,12.15 ; -0.635,13.85 -1.25,13.85 -1.25,14.15 -0.635,14.15 ; 0.635,-15.15 1.25,-15.15 1.25,-14.85 0.635,-14.85 ; 0.635,-13.15 1.25,-13.15 1.25,-12.85 0.635,-12.85 ; 0.635,-11.15 1.25,-11.15 1.25,-10.85 0.635,-10.85 ; 0.635,-9.15 1.25,-9.15 1.25,-8.85 0.635,-8.85 ; 0.635,-7.15 1.25,-7.15 1.25,-6.85 0.635,-6.85 ; 0.635,-5.15 1.25,-5.15 1.25,-4.85 0.635,-4.85 ; 0.635,-3.15 1.25,-3.15 1.25,-2.85 0.635,-2.85 ; 0.635,-1.15 1.25,-1.15 1.25,-0.85 0.635,-0.85 ; 0.635,0.85 1.25,0.85 1.25,1.15 0.635,1.15 ; 0.635,2.85 1.25,2.85 1.25,3.15 0.635,3.15 ; 0.635,4.85 1.25,4.85 1.25,5.15 0.635,5.15 ; 0.635,6.85 1.25,6.85 1.25,7.15 0.635,7.15 ; 0.635,8.85 1.25,8.85 1.25,9.15 0.635,9.15 ; 0.635,10.85 1.25,10.85 1.25,11.15 0.635,11.15 ; 0.635,12.85 1.25,12.85 1.25,13.15 0.635,13.15 ; 0.635,14.85 1.25,14.85 1.25,15.15 0.635,15.15 ; 0.635,15.15 0.635,-15.5 -0.635,-15.5 -0.635,15.5 0.285,15.5 0.635,15.15
  text "'.Designator'" at 0.84,-4.047 h1
Top Courtyard:
  lines w0.254: -2.25,-16 2.25,-16 2.25,16 -2.25,16 -2.25,-16
Top Designator:
  text ".Designator" at -7.618,-0.508 h1.52

## PinHeader_1x32_P1.00mm_Horizontal [mm]
pads (32):
  rect 0.85x0.85 hole 0.5: 1(0,0)
  round 0.85 hole 0.5: 2(0,-1) 3(0,-2) 4(0,-3) 5(0,-4) 6(0,-5) 7(0,-6) 8(0,-7) 9(0,-8) 10(0,-9) 11(0,-10) 12(0,-11) 13(0,-12) 14(0,-13) 15(0,-14) 16(0,-15) 17(0,-16) 18(0,-17) 19(0,-18) 20(0,-19) 21(0,-20) 22(0,-21) 23(0,-22) 24(0,-23) 25(0,-24) 26(0,-25) 27(0,-26) 28(0,-27) 29(0,-28) 30(0,-29) 31(0,-30) 32(0,-31)
F.SilkS:
  lines w0.254: -0.735,0 -0.735,0.735 0,0.735 ; 0.41,-31.61 1.36,-31.61 1.36,0.61 0.735,0.61 ; 0.539,-30.5 1.36,-30.5 ; 0.539,-29.5 1.36,-29.5 ; 0.539,-28.5 1.36,-28.5 ; 0.539,-27.5 1.36,-27.5 ; 0.539,-26.5 1.36,-26.5 ; 0.539,-25.5 1.36,-25.5 ; 0.539,-24.5 1.36,-24.5 ; 0.539,-23.5 1.36,-23.5 ; 0.539,-22.5 1.36,-22.5 ; 0.539,-21.5 1.36,-21.5 ; 0.539,-20.5 1.36,-20.5 ; 0.539,-19.5 1.36,-19.5 ; 0.539,-18.5 1.36,-18.5 ; 0.539,-17.5 1.36,-17.5 ; 0.539,-16.5 1.36,-16.5 ; 0.539,-15.5 1.36,-15.5 ; 0.539,-14.5 1.36,-14.5 ; 0.539,-13.5 1.36,-13.5 ; 0.539,-12.5 1.36,-12.5 ; 0.539,-11.5 1.36,-11.5 ; 0.539,-10.5 1.36,-10.5 ; 0.539,-9.5 1.36,-9.5 ; 0.539,-8.5 1.36,-8.5 ; 0.539,-7.5 1.36,-7.5 ; 0.539,-6.5 1.36,-6.5 ; 0.539,-5.5 1.36,-5.5 ; 0.539,-4.5 1.36,-4.5 ; 0.539,-3.5 1.36,-3.5 ; 0.539,-2.5 1.36,-2.5 ; 0.539,-1.5 1.36,-1.5 ; 0.735,-0.5 1.36,-0.5 ; 1.36,-31.26 3.36,-31.26 3.36,-30.74 1.36,-30.74 ; 1.36,-30.26 3.36,-30.26 3.36,-29.74 1.36,-29.74 ; 1.36,-29.26 3.36,-29.26 3.36,-28.74 1.36,-28.74 ; 1.36,-28.26 3.36,-28.26 3.36,-27.74 1.36,-27.74 ; 1.36,-27.26 3.36,-27.26 3.36,-26.74 1.36,-26.74 ; 1.36,-26.26 3.36,-26.26 3.36,-25.74 1.36,-25.74 ; 1.36,-25.26 3.36,-25.26 3.36,-24.74 1.36,-24.74 ; 1.36,-24.26 3.36,-24.26 3.36,-23.74 1.36,-23.74 ; 1.36,-23.26 3.36,-23.26 3.36,-22.74 1.36,-22.74 ; 1.36,-22.26 3.36,-22.26 3.36,-21.74 1.36,-21.74 ; 1.36,-21.26 3.36,-21.26 3.36,-20.74 1.36,-20.74 ; 1.36,-20.26 3.36,-20.26 3.36,-19.74 1.36,-19.74 ; 1.36,-19.26 3.36,-19.26 3.36,-18.74 1.36,-18.74 ; 1.36,-18.26 3.36,-18.26 3.36,-17.74 1.36,-17.74 ; 1.36,-17.26 3.36,-17.26 3.36,-16.74 1.36,-16.74 ; 1.36,-16.26 3.36,-16.26 3.36,-15.74 1.36,-15.74 ; 1.36,-15.26 3.36,-15.26 3.36,-14.74 1.36,-14.74 ; 1.36,-14.26 3.36,-14.26 3.36,-13.74 1.36,-13.74 ; 1.36,-13.26 3.36,-13.26 3.36,-12.74 1.36,-12.74 ; 1.36,-12.26 3.36,-12.26 3.36,-11.74 1.36,-11.74 ; 1.36,-11.26 3.36,-11.26 3.36,-10.74 1.36,-10.74 ; 1.36,-10.26 3.36,-10.26 3.36,-9.74 1.36,-9.74 ; 1.36,-9.26 3.36,-9.26 3.36,-8.74 1.36,-8.74 ; 1.36,-8.26 3.36,-8.26 3.36,-7.74 1.36,-7.74 ; 1.36,-7.26 3.36,-7.26 3.36,-6.74 1.36,-6.74 ; 1.36,-6.26 3.36,-6.26 3.36,-5.74 1.36,-5.74 ; 1.36,-5.26 3.36,-5.26 3.36,-4.74 1.36,-4.74 ; 1.36,-4.26 3.36,-4.26 3.36,-3.74 1.36,-3.74 ; 1.36,-3.26 3.36,-3.26 3.36,-2.74 1.36,-2.74 ; 1.36,-2.26 3.36,-2.26 3.36,-1.74 1.36,-1.74 ; 1.36,-1.26 3.36,-1.26 3.36,-0.74 1.36,-0.74 ; 1.36,-0.26 3.36,-0.26 3.36,0.26 1.36,0.26 1.36,-0.26
Top Assembly:
  drawing of 197 lines, arcs and shapes, not listed
  text "'.Designator'" at 1.254,-17.928 h0.6
Top Courtyard:
  lines w0.254: -1,-32 3.75,-32 3.75,1 -1,1 -1,-32
Top Designator:
  text ".Designator" at -6.243,-16.008 h1.52

## PinHeader_1x32_P1.00mm_Vertical [mm]
pads (32):
  rect 0.85x0.85 hole 0.5: 1(0,0)
  round 0.85 hole 0.5: 2(0,-1) 3(0,-2) 4(0,-3) 5(0,-4) 6(0,-5) 7(0,-6) 8(0,-7) 9(0,-8) 10(0,-9) 11(0,-10) 12(0,-11) 13(0,-12) 14(0,-13) 15(0,-14) 16(0,-15) 17(0,-16) 18(0,-17) 19(0,-18) 20(0,-19) 21(0,-20) 22(0,-21) 23(0,-22) 24(0,-23) 25(0,-24) 26(0,-25) 27(0,-26) 28(0,-27) 29(0,-28) 30(0,-29) 31(0,-30) 32(0,-31)
F.SilkS:
  lines w0.254: -0.745,0 -0.745,0.735 0,0.735 ; -0.686,-0.735 -0.745,-0.735 -0.745,-31.61 -0.41,-31.61 ; 0.41,-31.61 0.745,-31.61 0.745,-0.735 0.686,-0.735
Top Assembly:
  lines w0.254: -0.635,-31.5 0.635,-31.5 0.635,0.5 -0.318,0.5 -0.635,0.182 -0.635,-31.5
  text "'.Designator'" at 0.639,-18.576 h0.76
Top Courtyard:
  lines w0.254: -1.14,-32 1.14,-32 1.14,1 -1.14,1 -1.14,-32
Top Designator:
  text ".Designator" at -7.618,-16.008 h1.52

## PinHeader_1x32_P1.00mm_Vertical_SMD_Pin1Left [mm]
pads (32):
  rect 1.75x0.6 smd: 1(-0.875,15.5) 2(0.875,14.5) 3(-0.875,13.5) 4(0.875,12.5) 5(-0.875,11.5) 6(0.875,10.5) 7(-0.875,9.5) 8(0.875,8.5) 9(-0.875,7.5) 10(0.875,6.5) 11(-0.875,5.5) 12(0.875,4.5) 13(-0.875,3.5) 14(0.875,2.5) 15(-0.875,1.5) 16(0.875,0.5) 17(-0.875,-0.5) 18(0.875,-1.5) 19(-0.875,-2.5) 20(0.875,-3.5) 21(-0.875,-4.5) 22(0.875,-5.5) 23(-0.875,-6.5) 24(0.875,-7.5) 25(-0.875,-8.5) 26(0.875,-9.5) 27(-0.875,-10.5) 28(0.875,-11.5) 29(-0.875,-12.5) 30(0.875,-13.5) 31(-0.875,-14.5) 32(0.875,-15.5)
F.SilkS:
  lines w0.254: -1.69,16.11 -0.745,16.11 0.745,16.11 0.745,15.11 ; -0.745,-15.11 -0.745,-16.11 0.745,-16.11 ; -0.745,-13.89 -0.745,-13.11 ; -0.745,-11.89 -0.745,-11.11 ; -0.745,-9.89 -0.745,-9.11 ; -0.745,-7.89 -0.745,-7.11 ; -0.745,-5.89 -0.745,-5.11 ; -0.745,-3.89 -0.745,-3.11 ; -0.745,-1.89 -0.745,-1.11 ; -0.745,0.11 -0.745,0.89 ; -0.745,2.11 -0.745,2.89 ; -0.745,4.11 -0.745,4.89 ; -0.745,6.11 -0.745,6.89 ; -0.745,8.11 -0.745,8.89 ; -0.745,10.11 -0.745,10.89 ; -0.745,12.11 -0.745,12.89 ; -0.745,14.11 -0.745,14.89 ; 0.745,-14.89 0.745,-14.11 ; 0.745,-12.89 0.745,-12.11 ; 0.745,-10.89 0.745,-10.11 ; 0.745,-8.89 0.745,-8.11 ; 0.745,-6.89 0.745,-6.11 ; 0.745,-4.89 0.745,-4.11 ; 0.745,-2.89 0.745,-2.11 ; 0.745,-0.89 0.745,-0.11 ; 0.745,1.11 0.745,1.89 ; 0.745,3.11 0.745,3.89 ; 0.745,5.11 0.745,5.89 ; 0.745,7.11 0.745,7.89 ; 0.745,9.11 0.745,9.89 ; 0.745,11.11 0.745,11.89 ; 0.745,13.11 0.745,13.89
Top Assembly:
  lines w0.254: -0.635,-14.65 -1.25,-14.65 -1.25,-14.35 -0.635,-14.35 ; -0.635,-12.65 -1.25,-12.65 -1.25,-12.35 -0.635,-12.35 ; -0.635,-10.65 -1.25,-10.65 -1.25,-10.35 -0.635,-10.35 ; -0.635,-8.65 -1.25,-8.65 -1.25,-8.35 -0.635,-8.35 ; -0.635,-6.65 -1.25,-6.65 -1.25,-6.35 -0.635,-6.35 ; -0.635,-4.65 -1.25,-4.65 -1.25,-4.35 -0.635,-4.35 ; -0.635,-2.65 -1.25,-2.65 -1.25,-2.35 -0.635,-2.35 ; -0.635,-0.65 -1.25,-0.65 -1.25,-0.35 -0.635,-0.35 ; -0.635,1.35 -1.25,1.35 -1.25,1.65 -0.635,1.65 ; -0.635,3.35 -1.25,3.35 -1.25,3.65 -0.635,3.65 ; -0.635,5.35 -1.25,5.35 -1.25,5.65 -0.635,5.65 ; -0.635,7.35 -1.25,7.35 -1.25,7.65 -0.635,7.65 ; -0.635,9.35 -1.25,9.35 -1.25,9.65 -0.635,9.65 ; -0.635,11.35 -1.25,11.35 -1.25,11.65 -0.635,11.65 ; -0.635,13.35 -1.25,13.35 -1.25,13.65 -0.635,13.65 ; -0.635,15.35 -1.25,15.35 -1.25,15.65 -0.635,15.65 ; 0.635,-15.65 1.25,-15.65 1.25,-15.35 0.635,-15.35 ; 0.635,-13.65 1.25,-13.65 1.25,-13.35 0.635,-13.35 ; 0.635,-11.65 1.25,-11.65 1.25,-11.35 0.635,-11.35 ; 0.635,-9.65 1.25,-9.65 1.25,-9.35 0.635,-9.35 ; 0.635,-7.65 1.25,-7.65 1.25,-7.35 0.635,-7.35 ; 0.635,-5.65 1.25,-5.65 1.25,-5.35 0.635,-5.35 ; 0.635,-3.65 1.25,-3.65 1.25,-3.35 0.635,-3.35 ; 0.635,-1.65 1.25,-1.65 1.25,-1.35 0.635,-1.35 ; 0.635,0.35 1.25,0.35 1.25,0.65 0.635,0.65 ; 0.635,2.35 1.25,2.35 1.25,2.65 0.635,2.65 ; 0.635,4.35 1.25,4.35 1.25,4.65 0.635,4.65 ; 0.635,6.35 1.25,6.35 1.25,6.65 0.635,6.65 ; 0.635,8.35 1.25,8.35 1.25,8.65 0.635,8.65 ; 0.635,10.35 1.25,10.35 1.25,10.65 0.635,10.65 ; 0.635,12.35 1.25,12.35 1.25,12.65 0.635,12.65 ; 0.635,14.35 1.25,14.35 1.25,14.65 0.635,14.65 ; -0.635,15.65 -0.635,-16 0.635,-16 0.635,16 -0.285,16 -0.635,15.65
  text "'.Designator'" at 0.84,-4.047 h1
Top Courtyard:
  lines w0.254: -2.25,-16.5 2.25,-16.5 2.25,16.5 -2.25,16.5 -2.25,-16.5
Top Designator:
  text ".Designator" at -7.618,-0.508 h1.52

## PinHeader_1x32_P1.00mm_Vertical_SMD_Pin1Right [mm]
pads (32):
  rect 1.75x0.6 smd: 1(0.875,15.5) 2(-0.875,14.5) 3(0.875,13.5) 4(-0.875,12.5) 5(0.875,11.5) 6(-0.875,10.5) 7(0.875,9.5) 8(-0.875,8.5) 9(0.875,7.5) 10(-0.875,6.5) 11(0.875,5.5) 12(-0.875,4.5) 13(0.875,3.5) 14(-0.875,2.5) 15(0.875,1.5) 16(-0.875,0.5) 17(0.875,-0.5) 18(-0.875,-1.5) 19(0.875,-2.5) 20(-0.875,-3.5) 21(0.875,-4.5) 22(-0.875,-5.5) 23(0.875,-6.5) 24(-0.875,-7.5) 25(0.875,-8.5) 26(-0.875,-9.5) 27(0.875,-10.5) 28(-0.875,-11.5) 29(0.875,-12.5) 30(-0.875,-13.5) 31(0.875,-14.5) 32(-0.875,-15.5)
F.SilkS:
  lines w0.254: -0.745,-16.11 0.745,-16.11 0.745,-15.11 ; -0.745,-14.89 -0.745,-14.11 ; -0.745,-12.89 -0.745,-12.11 ; -0.745,-10.89 -0.745,-10.11 ; -0.745,-8.89 -0.745,-8.11 ; -0.745,-6.89 -0.745,-6.11 ; -0.745,-4.89 -0.745,-4.11 ; -0.745,-2.89 -0.745,-2.11 ; -0.745,-0.89 -0.745,-0.11 ; -0.745,1.11 -0.745,1.89 ; -0.745,3.11 -0.745,3.89 ; -0.745,5.11 -0.745,5.89 ; -0.745,7.11 -0.745,7.89 ; -0.745,9.11 -0.745,9.89 ; -0.745,11.11 -0.745,11.89 ; -0.745,13.11 -0.745,13.89 ; -0.745,15.89 -0.745,15.11 -0.745,16.11 0.745,16.11 1.69,16.11 ; 0.745,-13.89 0.745,-13.11 ; 0.745,-11.89 0.745,-11.11 ; 0.745,-9.89 0.745,-9.11 ; 0.745,-7.89 0.745,-7.11 ; 0.745,-5.89 0.745,-5.11 ; 0.745,-3.89 0.745,-3.11 ; 0.745,-1.89 0.745,-1.11 ; 0.745,0.11 0.745,0.89 ; 0.745,2.11 0.745,2.89 ; 0.745,4.11 0.745,4.89 ; 0.745,6.11 0.745,6.89 ; 0.745,8.11 0.745,8.89 ; 0.745,10.11 0.745,10.89 ; 0.745,12.11 0.745,12.89 ; 0.745,14.11 0.745,14.89
Top Assembly:
  lines w0.254: -0.635,-15.65 -1.25,-15.65 -1.25,-15.35 -0.635,-15.35 ; -0.635,-13.65 -1.25,-13.65 -1.25,-13.35 -0.635,-13.35 ; -0.635,-11.65 -1.25,-11.65 -1.25,-11.35 -0.635,-11.35 ; -0.635,-9.65 -1.25,-9.65 -1.25,-9.35 -0.635,-9.35 ; -0.635,-7.65 -1.25,-7.65 -1.25,-7.35 -0.635,-7.35 ; -0.635,-5.65 -1.25,-5.65 -1.25,-5.35 -0.635,-5.35 ; -0.635,-3.65 -1.25,-3.65 -1.25,-3.35 -0.635,-3.35 ; -0.635,-1.65 -1.25,-1.65 -1.25,-1.35 -0.635,-1.35 ; -0.635,0.35 -1.25,0.35 -1.25,0.65 -0.635,0.65 ; -0.635,2.35 -1.25,2.35 -1.25,2.65 -0.635,2.65 ; -0.635,4.35 -1.25,4.35 -1.25,4.65 -0.635,4.65 ; -0.635,6.35 -1.25,6.35 -1.25,6.65 -0.635,6.65 ; -0.635,8.35 -1.25,8.35 -1.25,8.65 -0.635,8.65 ; -0.635,10.35 -1.25,10.35 -1.25,10.65 -0.635,10.65 ; -0.635,12.35 -1.25,12.35 -1.25,12.65 -0.635,12.65 ; -0.635,14.35 -1.25,14.35 -1.25,14.65 -0.635,14.65 ; 0.635,-14.65 1.25,-14.65 1.25,-14.35 0.635,-14.35 ; 0.635,-12.65 1.25,-12.65 1.25,-12.35 0.635,-12.35 ; 0.635,-10.65 1.25,-10.65 1.25,-10.35 0.635,-10.35 ; 0.635,-8.65 1.25,-8.65 1.25,-8.35 0.635,-8.35 ; 0.635,-6.65 1.25,-6.65 1.25,-6.35 0.635,-6.35 ; 0.635,-4.65 1.25,-4.65 1.25,-4.35 0.635,-4.35 ; 0.635,-2.65 1.25,-2.65 1.25,-2.35 0.635,-2.35 ; 0.635,-0.65 1.25,-0.65 1.25,-0.35 0.635,-0.35 ; 0.635,1.35 1.25,1.35 1.25,1.65 0.635,1.65 ; 0.635,3.35 1.25,3.35 1.25,3.65 0.635,3.65 ; 0.635,5.35 1.25,5.35 1.25,5.65 0.635,5.65 ; 0.635,7.35 1.25,7.35 1.25,7.65 0.635,7.65 ; 0.635,9.35 1.25,9.35 1.25,9.65 0.635,9.65 ; 0.635,11.35 1.25,11.35 1.25,11.65 0.635,11.65 ; 0.635,13.35 1.25,13.35 1.25,13.65 0.635,13.65 ; 0.635,15.35 1.25,15.35 1.25,15.65 0.635,15.65 ; 0.635,15.65 0.635,-16 -0.635,-16 -0.635,16 0.285,16 0.635,15.65
  text "'.Designator'" at 0.84,-4.047 h1
Top Courtyard:
  lines w0.254: -2.25,-16.5 2.25,-16.5 2.25,16.5 -2.25,16.5 -2.25,-16.5
Top Designator:
  text ".Designator" at -7.618,-0.508 h1.52

## PinHeader_1x33_P1.00mm_Horizontal [mm]
pads (33):
  rect 0.85x0.85 hole 0.5: 1(0,0)
  round 0.85 hole 0.5: 2(0,-1) 3(0,-2) 4(0,-3) 5(0,-4) 6(0,-5) 7(0,-6) 8(0,-7) 9(0,-8) 10(0,-9) 11(0,-10) 12(0,-11) 13(0,-12) 14(0,-13) 15(0,-14) 16(0,-15) 17(0,-16) 18(0,-17) 19(0,-18) 20(0,-19) 21(0,-20) 22(0,-21) 23(0,-22) 24(0,-23) 25(0,-24) 26(0,-25) 27(0,-26) 28(0,-27) 29(0,-28) 30(0,-29) 31(0,-30) 32(0,-31) 33(0,-32)
F.SilkS:
  lines w0.254: -0.735,0 -0.735,0.735 0,0.735 ; 0.41,-32.61 1.36,-32.61 1.36,0.61 0.735,0.61 ; 0.539,-31.5 1.36,-31.5 ; 0.539,-30.5 1.36,-30.5 ; 0.539,-29.5 1.36,-29.5 ; 0.539,-28.5 1.36,-28.5 ; 0.539,-27.5 1.36,-27.5 ; 0.539,-26.5 1.36,-26.5 ; 0.539,-25.5 1.36,-25.5 ; 0.539,-24.5 1.36,-24.5 ; 0.539,-23.5 1.36,-23.5 ; 0.539,-22.5 1.36,-22.5 ; 0.539,-21.5 1.36,-21.5 ; 0.539,-20.5 1.36,-20.5 ; 0.539,-19.5 1.36,-19.5 ; 0.539,-18.5 1.36,-18.5 ; 0.539,-17.5 1.36,-17.5 ; 0.539,-16.5 1.36,-16.5 ; 0.539,-15.5 1.36,-15.5 ; 0.539,-14.5 1.36,-14.5 ; 0.539,-13.5 1.36,-13.5 ; 0.539,-12.5 1.36,-12.5 ; 0.539,-11.5 1.36,-11.5 ; 0.539,-10.5 1.36,-10.5 ; 0.539,-9.5 1.36,-9.5 ; 0.539,-8.5 1.36,-8.5 ; 0.539,-7.5 1.36,-7.5 ; 0.539,-6.5 1.36,-6.5 ; 0.539,-5.5 1.36,-5.5 ; 0.539,-4.5 1.36,-4.5 ; 0.539,-3.5 1.36,-3.5 ; 0.539,-2.5 1.36,-2.5 ; 0.539,-1.5 1.36,-1.5 ; 0.735,-0.5 1.36,-0.5 ; 1.36,-32.26 3.36,-32.26 3.36,-31.74 1.36,-31.74 ; 1.36,-31.26 3.36,-31.26 3.36,-30.74 1.36,-30.74 ; 1.36,-30.26 3.36,-30.26 3.36,-29.74 1.36,-29.74 ; 1.36,-29.26 3.36,-29.26 3.36,-28.74 1.36,-28.74 ; 1.36,-28.26 3.36,-28.26 3.36,-27.74 1.36,-27.74 ; 1.36,-27.26 3.36,-27.26 3.36,-26.74 1.36,-26.74 ; 1.36,-26.26 3.36,-26.26 3.36,-25.74 1.36,-25.74 ; 1.36,-25.26 3.36,-25.26 3.36,-24.74 1.36,-24.74 ; 1.36,-24.26 3.36,-24.26 3.36,-23.74 1.36,-23.74 ; 1.36,-23.26 3.36,-23.26 3.36,-22.74 1.36,-22.74 ; 1.36,-22.26 3.36,-22.26 3.36,-21.74 1.36,-21.74 ; 1.36,-21.26 3.36,-21.26 3.36,-20.74 1.36,-20.74 ; 1.36,-20.26 3.36,-20.26 3.36,-19.74 1.36,-19.74 ; 1.36,-19.26 3.36,-19.26 3.36,-18.74 1.36,-18.74 ; 1.36,-18.26 3.36,-18.26 3.36,-17.74 1.36,-17.74 ; 1.36,-17.26 3.36,-17.26 3.36,-16.74 1.36,-16.74 ; 1.36,-16.26 3.36,-16.26 3.36,-15.74 1.36,-15.74 ; 1.36,-15.26 3.36,-15.26 3.36,-14.74 1.36,-14.74 ; 1.36,-14.26 3.36,-14.26 3.36,-13.74 1.36,-13.74 ; 1.36,-13.26 3.36,-13.26 3.36,-12.74 1.36,-12.74 ; 1.36,-12.26 3.36,-12.26 3.36,-11.74 1.36,-11.74 ; 1.36,-11.26 3.36,-11.26 3.36,-10.74 1.36,-10.74 ; 1.36,-10.26 3.36,-10.26 3.36,-9.74 1.36,-9.74 ; 1.36,-9.26 3.36,-9.26 3.36,-8.74 1.36,-8.74 ; 1.36,-8.26 3.36,-8.26 3.36,-7.74 1.36,-7.74 ; 1.36,-7.26 3.36,-7.26 3.36,-6.74 1.36,-6.74 ; 1.36,-6.26 3.36,-6.26 3.36,-5.74 1.36,-5.74 ; 1.36,-5.26 3.36,-5.26 3.36,-4.74 1.36,-4.74 ; 1.36,-4.26 3.36,-4.26 3.36,-3.74 1.36,-3.74 ; 1.36,-3.26 3.36,-3.26 3.36,-2.74 1.36,-2.74 ; 1.36,-2.26 3.36,-2.26 3.36,-1.74 1.36,-1.74 ; 1.36,-1.26 3.36,-1.26 3.36,-0.74 1.36,-0.74 ; 1.36,-0.26 3.36,-0.26 3.36,0.26 1.36,0.26 1.36,-0.26
Top Assembly:
  drawing of 203 lines, arcs and shapes, not listed
  text "'.Designator'" at 1.254,-18.428 h0.6
Top Courtyard:
  lines w0.254: -1,-33 3.75,-33 3.75,1 -1,1 -1,-33
Top Designator:
  text ".Designator" at -6.243,-16.508 h1.52

## PinHeader_1x33_P1.00mm_Vertical [mm]
pads (33):
  rect 0.85x0.85 hole 0.5: 1(0,0)
  round 0.85 hole 0.5: 2(0,-1) 3(0,-2) 4(0,-3) 5(0,-4) 6(0,-5) 7(0,-6) 8(0,-7) 9(0,-8) 10(0,-9) 11(0,-10) 12(0,-11) 13(0,-12) 14(0,-13) 15(0,-14) 16(0,-15) 17(0,-16) 18(0,-17) 19(0,-18) 20(0,-19) 21(0,-20) 22(0,-21) 23(0,-22) 24(0,-23) 25(0,-24) 26(0,-25) 27(0,-26) 28(0,-27) 29(0,-28) 30(0,-29) 31(0,-30) 32(0,-31) 33(0,-32)
F.SilkS:
  lines w0.254: -0.745,0 -0.745,0.735 0,0.735 ; -0.686,-0.735 -0.745,-0.735 -0.745,-32.61 -0.41,-32.61 ; 0.41,-32.61 0.745,-32.61 0.745,-0.735 0.686,-0.735
Top Assembly:
  lines w0.254: -0.635,-32.5 0.635,-32.5 0.635,0.5 -0.318,0.5 -0.635,0.182 -0.635,-32.5
  text "'.Designator'" at 0.639,-19.076 h0.76
Top Courtyard:
  lines w0.254: -1.14,-33 1.14,-33 1.14,1 -1.14,1 -1.14,-33
Top Designator:
  text ".Designator" at -7.618,-16.508 h1.52